# Altium schematic symbol library Connector_MEIGAN_MG136HT.SchLib: 1 symbol
Pins are listed as number, name and electrical type; pins without a type are passive.

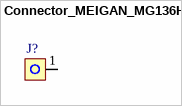
[diagram p0: symbol Connector_MEIGAN_MG136HT]

## Connector_MEIGAN_MG136HT
designator J?, comment MG_136_HT  (value not drawn)
footprint Conn_MEIGAN_MG136HT
pins: 1 17